# Altium schematic symbol library YNH-MN316.SchLib: 1 symbol
Pins are listed as number, name and electrical type; pins without a type are passive.

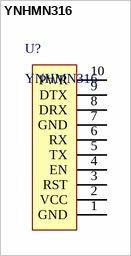
[diagram p0: symbol YNHMN316]

## YNHMN316
designator U?
NBIOT核心板
pins: 1 GND, 2 VCC, 3 RST, 4 EN, 5 TX, 6 RX, 7 GND, 8 DRX, 9 DTX, 10 PWR